# Altium footprint library TVS_P40-GXXX_M.PcbLib: 1 footprints
Each footprint in its own frame and in the unit in brackets; x right, y up, seen from the top. Pads: shape width x height; smd on the part's side, far side on the other; paste and mask are expansions set on the pad; w line width, h text height; cw(c..) or ccw(c..) is an arc to the next point about the centre after c.
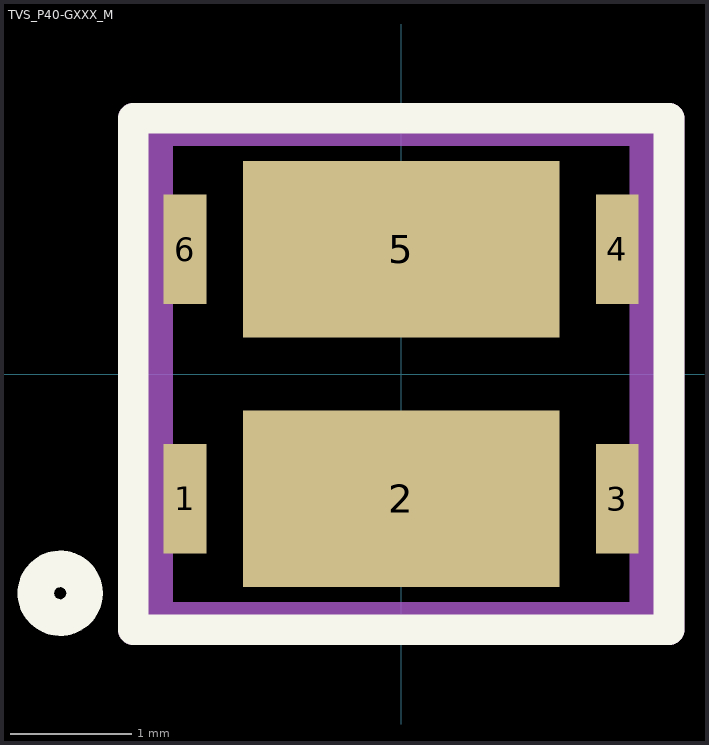
[diagram p0: the footprint, top view; thin cyan lines are the x and y axes]

## TVS_P40-GXXX_M [mm]
pads (6):
  rect 0.35x0.9 smd: 1(-1.775,-1.025) 3(1.775,-1.025) 4(1.775,1.025) 6(-1.775,1.025)
  rect 2.6x1.45 smd: 2(0,-1.025) 5(0,1.025)
Top Overlay:
  circle w0.3: c-2.8,-1.8 r0.2
  lines w0.254: -2.2,-2.1 -2.2,2.1 2.2,2.1 2.2,-2.1 -2.2,-2.1
Mechanical 13:
  lines w0.254: -2,-2 -2,2 2,2 2,-2 -2,-2
Mechanical 15:
  lines w0.254: -2.2,-2.1 -2.2,2.1 2.2,2.1 2.2,-2.1 -2.2,-2.1
Mechanical 17:
  text "'.Designator'" at -1.5,-1.6 h0.4
Mechanical 19:
  text "'.Comment'" at -1.6,-2.2 h0.64
3D body "p40.stp": height 0.85, standoff -0.03, extent -2,-2 2,2